# Altium footprint library PCB - CONNECTOR - USB - GENERIC USB-C 6 PIN.PcbLib: 1 footprints
Each footprint in its own frame and in the unit in brackets; x right, y up, seen from the top. Pads: shape width x height; smd on the part's side, far side on the other; paste and mask are expansions set on the pad; w line width, h text height; cw(c..) or ccw(c..) is an arc to the next point about the centre after c.
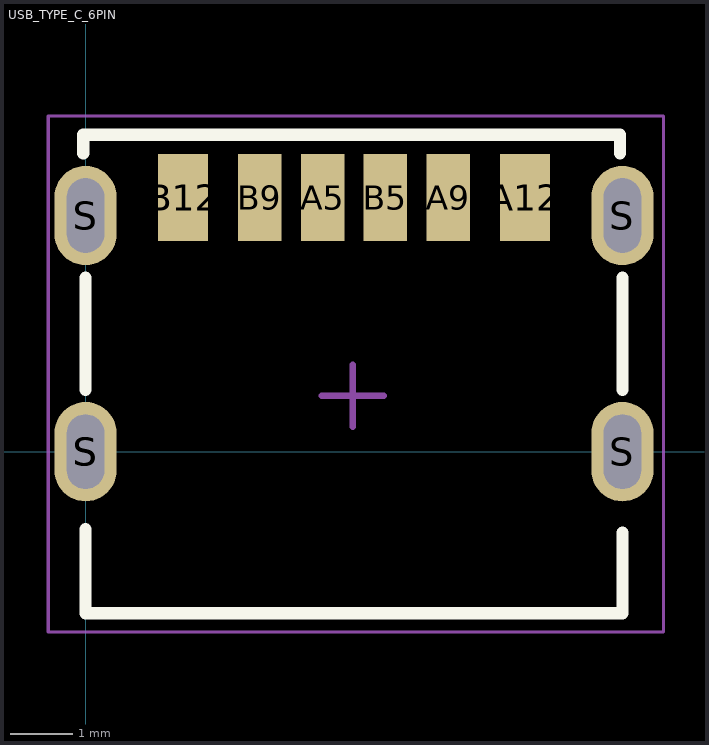
[diagram p0: the footprint, top view; thin cyan lines are the x and y axes]

## USB_TYPE_C_6PIN [mm] "Power only USB Type-C 6pin"
height 2.56
pads (11):
  rect 0.7x1.4 smd: A5(3.82,4.09) A9(5.84,4.09) B5(4.82,4.09) B9(2.8,4.09)
  rect 0.8x1.4 smd: A12(7.07,4.09) B12(1.57,4.09)
  oval 1x1.6 hole 1.2 slot 0.6 at 0 deg: S(0,0) S(0,3.8) S(8.64,0) S(8.64,3.8)
  oval 1x1.6 smd: S(0,0)
Top Overlay:
  lines w0.2: -0.04,4.8 -0.04,5.1 8.6,5.1 8.6,4.8 ; 0,-2.6 8.64,-2.6 8.64,-1.3 ; 0,-2.55 0,-1.25 ; 0,1 0,2.8 ; 8.64,1 8.64,2.8
Top Courtyard:
  lines w0.05: -0.6,-2.9 9.3,-2.9 9.3,5.4 -0.6,5.4 -0.6,-2.9
  lines w0.1: 3.8,0.9 4.3,0.9 ; 4.3,0.4 4.3,0.9 ; 4.3,1.4 4.3,0.9 ; 4.8,0.9 4.3,0.9
3D body "KUSBX USB Type-C 6pin.step": height 3.21, standoff -1.01, extent -0.154,-2.575 8.786,4.225